# Altium schematic symbol library LTC1150.SchLib: 1 symbol
Pins are listed as number, name and electrical type; pins without a type are passive.

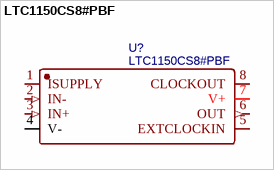
[diagram p0: symbol LTC1150CS8#PBF]

## LTC1150CS8#PBF
designator U?
具内部电容器的 ±15V 零漂移运算放大器; Manufacturer: ADI(亚德诺); Contributor: LCSC; Supplier: LCSC; Supplier Part: C674662; Manufacturer Part: LTC1150CS8#PBF; JLCPCB Part Class: Extended Part; spicePre: U; spiceSymbolName: LTC1150CS8#PBF
footprint SO-8_L4.9-W3.9-P1.27-LS6.0-BL
pins: 1 ISUPPLY, 2 IN- (in), 3 IN+ (in), 4 V- (power), 5 EXTCLOCKIN, 6 OUT (out), 7 V+ (power), 8 CLOCKOUT